# EAGLE library part 634008149721 (library 615008185221_Eagle_WR-MJ_rev20b)
WR-MJ Modular Jack Horizontal Shielded SMT with EMI Panel Finger 8P8C KIND PROPERTIES Quality Class:500 Mating cycles General Information Operating Temperature:-40 up to +85 °C Compliance:RoHS Electrical Properties IR1:1.5A Working Voltage:120V (AC) Withstanding Voltage:1000V (AC) Contact Resistance:20mΩ RISO:500 MΩ Material Properties Insulator MateriaL:PA9T Insulator Flammability Rating:UL94 V-0 Color:Black Cover Material Bronze Cover Plating Nickel Contact Material Copper Alloy Contact Plating:Selective Gold Contact Type:Stamped Shielding Material:Brass Shielding Plating:Nickel Packaging Properties Packaging:Tray <https://www.we-online.com/catalog/media/o60684v209%20Family_WR-MJ_Horizontal_Shielded_634008149721_pf2.jpg> Details see: https://www.we-online.com/catalog/en/MJ_SMT_HORIZONTAL_SHIELDED_W_EMI_PANEL_FINGER_8P8C/ Updated by Yingchun,Shan 2019-11-26 2019 (C) Würth Elektronik
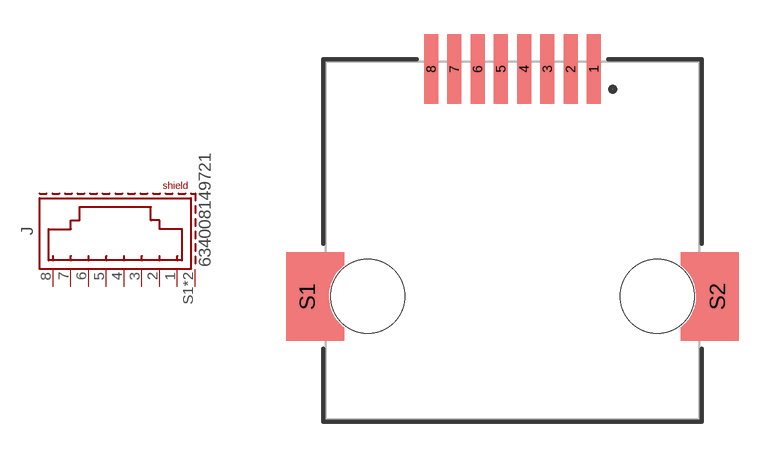
[diagram p18: symbol with the pads of 634008149721; footprint 634008149721]

Designator prefix J

## 634008149721 (DATASHEET-URL: https://www.we-online.com/catalog/datasheet/634008149721.pdf; MOUNT: SMT; PART-NUMBER: 634008149721; TYPE: Horizontal; VALUE: 634008149721; XPXC: 8P8C)  [634008149721]
1  1  pas
2  2  pas
3  3  pas
4  4  pas
5  5  pas
6  6  pas
7  7  pas
8  8  pas
S1  SHIELD  pas
S2  SHIELD  pas

## Footprint 634008149721 (pad centres in mm)
WR-MJ Modular Jack Horizontal Shielded SMT with EMI Panel Finger 8P8C
smd 0.61 x 3.05: 1 3.57,7.53; 2 2.55,7.53; 3 1.53,7.53; 4 0.51,7.53; 5 -0.51,7.53; 6 -1.53,7.53; 7 -2.55,7.53; 8 -3.57,7.53
smd 1 x 3.89: S1 -9,-2.45; S2 9,-2.45
hole 3.25 at -6.35,-2.45
hole 3.25 at 6.35,-2.45